# Altium schematic symbol library dungvh03-CERN_Logic.SchLib: 486 symbols (part 17 of 54)
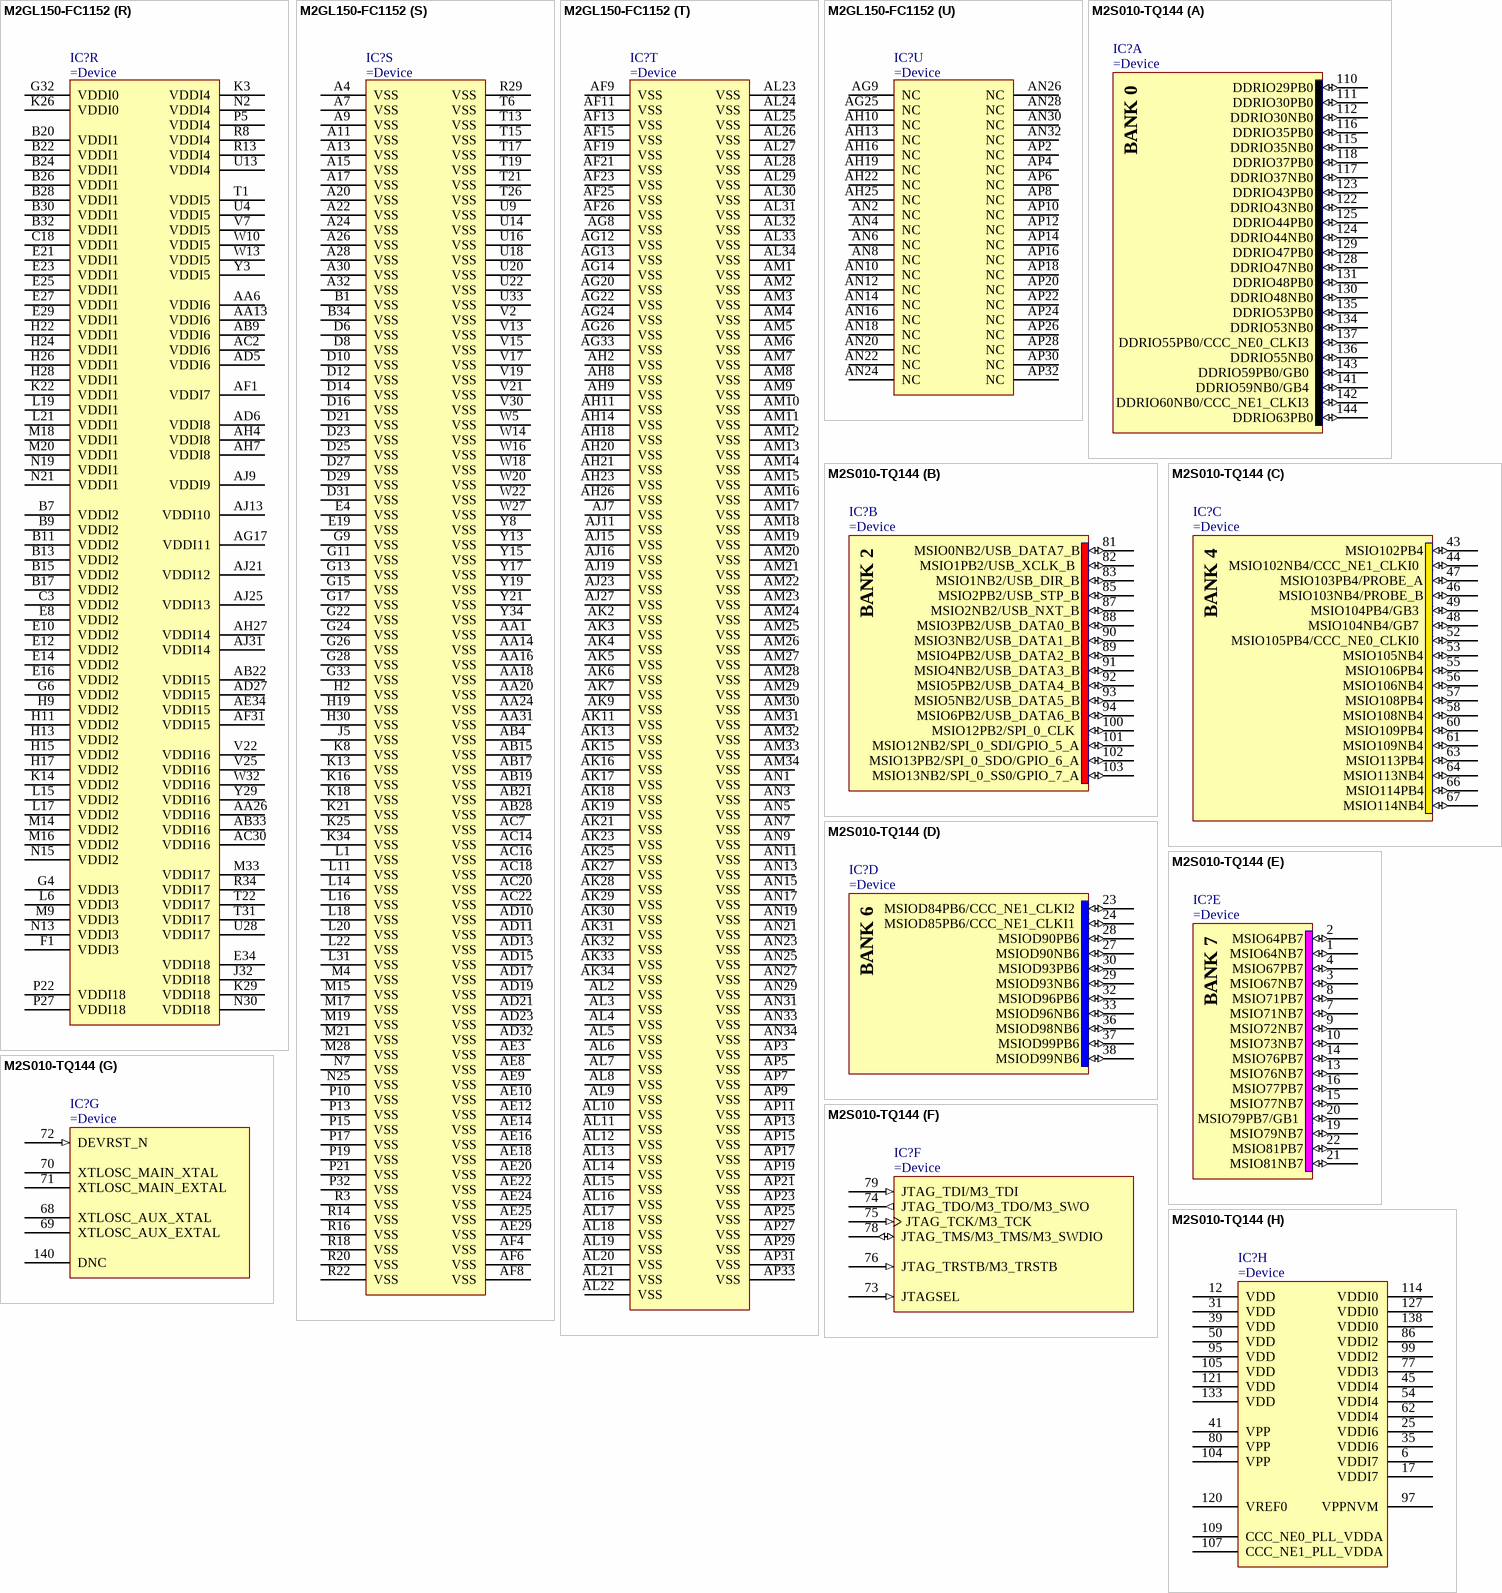
[diagram p277: symbols M2GL150-FC1152 to M2S010-TQ144]

## M2GL150-FC1152 (continued)
part S pins: A4 VSS (power) "Ground pad for core and I/Os. Must always connect to ground.", A7 VSS (power) "Ground pad for core and I/Os. Must always connect to ground.", A9 VSS (power) "Ground pad for core and I/Os. Must always connect to ground.", A11 VSS (power) "Ground pad for core and I/Os. Must always connect to ground.", A13 VSS (power) "Ground pad for core and I/Os. Must always connect to ground.", A15 VSS (power) "Ground pad for core and I/Os. Must always connect to ground.", A17 VSS (power) "Ground pad for core and I/Os. Must always connect to ground.", A20 VSS (power) "Ground pad for core and I/Os. Must always connect to ground.", A22 VSS (power) "Ground pad for core and I/Os. Must always connect to ground.", A24 VSS (power) "Ground pad for core and I/Os. Must always connect to ground.", A26 VSS (power) "Ground pad for core and I/Os. Must always connect to ground.", A28 VSS (power) "Ground pad for core and I/Os. Must always connect to ground.", A30 VSS (power) "Ground pad for core and I/Os. Must always connect to ground.", A32 VSS (power) "Ground pad for core and I/Os. Must always connect to ground.", AA1 VSS (power) "Ground pad for core and I/Os. Must always connect to ground.", AA14 VSS (power) "Ground pad for core and I/Os. Must always connect to ground.", AA16 VSS (power) "Ground pad for core and I/Os. Must always connect to ground.", AA18 VSS (power) "Ground pad for core and I/Os. Must always connect to ground.", AA20 VSS (power) "Ground pad for core and I/Os. Must always connect to ground.", AA24 VSS (power) "Ground pad for core and I/Os. Must always connect to ground.", AA31 VSS (power) "Ground pad for core and I/Os. Must always connect to ground.", AB4 VSS (power) "Ground pad for core and I/Os. Must always connect to ground.", AB15 VSS (power) "Ground pad for core and I/Os. Must always connect to ground.", AB17 VSS (power) "Ground pad for core and I/Os. Must always connect to ground.", AB19 VSS (power) "Ground pad for core and I/Os. Must always connect to ground.", AB21 VSS (power) "Ground pad for core and I/Os. Must always connect to ground.", AB28 VSS (power) "Ground pad for core and I/Os. Must always connect to ground.", AC7 VSS (power) "Ground pad for core and I/Os. Must always connect to ground.", AC14 VSS (power) "Ground pad for core and I/Os. Must always connect to ground.", AC16 VSS (power) "Ground pad for core and I/Os. Must always connect to ground.", AC18 VSS (power) "Ground pad for core and I/Os. Must always connect to ground.", AC20 VSS (power) "Ground pad for core and I/Os. Must always connect to ground.", AC22 VSS (power) "Ground pad for core and I/Os. Must always connect to ground.", AD10 VSS (power) "Ground pad for core and I/Os. Must always connect to ground.", AD11 VSS (power) "Ground pad for core and I/Os. Must always connect to ground.", AD13 VSS (power) "Ground pad for core and I/Os. Must always connect to ground.", AD15 VSS (power) "Ground pad for core and I/Os. Must always connect to ground.", AD17 VSS (power) "Ground pad for core and I/Os. Must always connect to ground.", AD19 VSS (power) "Ground pad for core and I/Os. Must always connect to ground.", AD21 VSS (power) "Ground pad for core and I/Os. Must always connect to ground.", AD23 VSS (power) "Ground pad for core and I/Os. Must always connect to ground.", AD32 VSS (power) "Ground pad for core and I/Os. Must always connect to ground.", AE3 VSS (power) "Ground pad for core and I/Os. Must always connect to ground.", AE8 VSS (power) "Ground pad for core and I/Os. Must always connect to ground.", AE9 VSS (power) "Ground pad for core and I/Os. Must always connect to ground.", AE10 VSS (power) "Ground pad for core and I/Os. Must always connect to ground.", AE12 VSS (power) "Ground pad for core and I/Os. Must always connect to ground.", AE14 VSS (power) "Ground pad for core and I/Os. Must always connect to ground.", AE16 VSS (power) "Ground pad for core and I/Os. Must always connect to ground.", AE18 VSS (power) "Ground pad for core and I/Os. Must always connect to ground.", AE20 VSS (power) "Ground pad for core and I/Os. Must always connect to ground.", AE22 VSS (power) "Ground pad for core and I/Os. Must always connect to ground.", AE24 VSS (power) "Ground pad for core and I/Os. Must always connect to ground.", AE25 VSS (power) "Ground pad for core and I/Os. Must always connect to ground.", AE29 VSS (power) "Ground pad for core and I/Os. Must always connect to ground.", AF4 VSS (power) "Ground pad for core and I/Os. Must always connect to ground.", AF6 VSS (power) "Ground pad for core and I/Os. Must always connect to ground.", AF8 VSS (power) "Ground pad for core and I/Os. Must always connect to ground.", B1 VSS (power) "Ground pad for core and I/Os. Must always connect to ground.", B34 VSS (power) "Ground pad for core and I/Os. Must always connect to ground.", D6 VSS (power) "Ground pad for core and I/Os. Must always connect to ground.", D8 VSS (power) "Ground pad for core and I/Os. Must always connect to ground.", D10 VSS (power) "Ground pad for core and I/Os. Must always connect to ground.", D12 VSS (power) "Ground pad for core and I/Os. Must always connect to ground.", D14 VSS (power) "Ground pad for core and I/Os. Must always connect to ground.", D16 VSS (power) "Ground pad for core and I/Os. Must always connect to ground.", D21 VSS (power) "Ground pad for core and I/Os. Must always connect to ground.", D23 VSS (power) "Ground pad for core and I/Os. Must always connect to ground.", D25 VSS (power) "Ground pad for core and I/Os. Must always connect to ground.", D27 VSS (power) "Ground pad for core and I/Os. Must always connect to ground.", D29 VSS (power) "Ground pad for core and I/Os. Must always connect to ground.", D31 VSS (power) "Ground pad for core and I/Os. Must always connect to ground.", E4 VSS (power) "Ground pad for core and I/Os. Must always connect to ground.", E19 VSS (power) "Ground pad for core and I/Os. Must always connect to ground.", G9 VSS (power) "Ground pad for core and I/Os. Must always connect to ground.", G11 VSS (power) "Ground pad for core and I/Os. Must always connect to ground.", G13 VSS (power) "Ground pad for core and I/Os. Must always connect to ground.", G15 VSS (power) "Ground pad for core and I/Os. Must always connect to ground.", G17 VSS (power) "Ground pad for core and I/Os. Must always connect to ground.", G22 VSS (power) "Ground pad for core and I/Os. Must always connect to ground.", G24 VSS (power) "Ground pad for core and I/Os. Must always connect to ground.", G26 VSS (power) "Ground pad for core and I/Os. Must always connect to ground.", G28 VSS (power) "Ground pad for core and I/Os. Must always connect to ground.", G33 VSS (power) "Ground pad for core and I/Os. Must always connect to ground.", H2 VSS (power) "Ground pad for core and I/Os. Must always connect to ground.", H19 VSS (power) "Ground pad for core and I/Os. Must always connect to ground.", H30 VSS (power) "Ground pad for core and I/Os. Must always connect to ground.", J5 VSS (power) "Ground pad for core and I/Os. Must always connect to ground.", K8 VSS (power) "Ground pad for core and I/Os. Must always connect to ground.", K13 VSS (power) "Ground pad for core and I/Os. Must always connect to ground.", K16 VSS (power) "Ground pad for core and I/Os. Must always connect to ground.", K18 VSS (power) "Ground pad for core and I/Os. Must always connect to ground.", K21 VSS (power) "Ground pad for core and I/Os. Must always connect to ground.", K25 VSS (power) "Ground pad for core and I/Os. Must always connect to ground.", K34 VSS (power) "Ground pad for core and I/Os. Must always connect to ground.", L1 VSS (power) "Ground pad for core and I/Os. Must always connect to ground.", L11 VSS (power) "Ground pad for core and I/Os. Must always connect to ground.", L14 VSS (power) "Ground pad for core and I/Os. Must always connect to ground.", L16 VSS (power) "Ground pad for core and I/Os. Must always connect to ground.", L18 VSS (power) "Ground pad for core and I/Os. Must always connect to ground.", L20 VSS (power) "Ground pad for core and I/Os. Must always connect to ground.", L22 VSS (power) "Ground pad for core and I/Os. Must always connect to ground.", L31 VSS (power) "Ground pad for core and I/Os. Must always connect to ground.", M4 VSS (power) "Ground pad for core and I/Os. Must always connect to ground.", M15 VSS (power) "Ground pad for core and I/Os. Must always connect to ground.", M17 VSS (power) "Ground pad for core and I/Os. Must always connect to ground.", M19 VSS (power) "Ground pad for core and I/Os. Must always connect to ground.", M21 VSS (power) "Ground pad for core and I/Os. Must always connect to ground.", M28 VSS (power) "Ground pad for core and I/Os. Must always connect to ground.", N7 VSS (power) "Ground pad for core and I/Os. Must always connect to ground.", N25 VSS (power) "Ground pad for core and I/Os. Must always connect to ground.", P10 VSS (power) "Ground pad for core and I/Os. Must always connect to ground.", P13 VSS (power) "Ground pad for core and I/Os. Must always connect to ground.", P15 VSS (power) "Ground pad for core and I/Os. Must always connect to ground.", P17 VSS (power) "Ground pad for core and I/Os. Must always connect to ground.", P19 VSS (power) "Ground pad for core and I/Os. Must always connect to ground.", P21 VSS (power) "Ground pad for core and I/Os. Must always connect to ground.", P32 VSS (power) "Ground pad for core and I/Os. Must always connect to ground.", R3 VSS (power) "Ground pad for core and I/Os. Must always connect to ground.", R14 VSS (power) "Ground pad for core and I/Os. Must always connect to ground.", R16 VSS (power) "Ground pad for core and I/Os. Must always connect to ground.", R18 VSS (power) "Ground pad for core and I/Os. Must always connect to ground.", R20 VSS (power) "Ground pad for core and I/Os. Must always connect to ground.", R22 VSS (power) "Ground pad for core and I/Os. Must always connect to ground.", R29 VSS (power) "Ground pad for core and I/Os. Must always connect to ground.", T6 VSS (power) "Ground pad for core and I/Os. Must always connect to ground.", T13 VSS (power) "Ground pad for core and I/Os. Must always connect to ground.", T15 VSS (power) "Ground pad for core and I/Os. Must always connect to ground.", T17 VSS (power) "Ground pad for core and I/Os. Must always connect to ground.", T19 VSS (power) "Ground pad for core and I/Os. Must always connect to ground.", T21 VSS (power) "Ground pad for core and I/Os. Must always connect to ground.", T26 VSS (power) "Ground pad for core and I/Os. Must always connect to ground.", U9 VSS (power) "Ground pad for core and I/Os. Must always connect to ground.", U14 VSS (power) "Ground pad for core and I/Os. Must always connect to ground.", U16 VSS (power) "Ground pad for core and I/Os. Must always connect to ground.", U18 VSS (power) "Ground pad for core and I/Os. Must always connect to ground.", U20 VSS (power) "Ground pad for core and I/Os. Must always connect to ground.", U22 VSS (power) "Ground pad for core and I/Os. Must always connect to ground.", U33 VSS (power) "Ground pad for core and I/Os. Must always connect to ground.", V2 VSS (power) "Ground pad for core and I/Os. Must always connect to ground.", V13 VSS (power) "Ground pad for core and I/Os. Must always connect to ground.", V15 VSS (power) "Ground pad for core and I/Os. Must always connect to ground.", V17 VSS (power) "Ground pad for core and I/Os. Must always connect to ground.", V19 VSS (power) "Ground pad for core and I/Os. Must always connect to ground.", V21 VSS (power) "Ground pad for core and I/Os. Must always connect to ground.", V30 VSS (power) "Ground pad for core and I/Os. Must always connect to ground.", W5 VSS (power) "Ground pad for core and I/Os. Must always connect to ground.", W14 VSS (power) "Ground pad for core and I/Os. Must always connect to ground.", W16 VSS (power) "Ground pad for core and I/Os. Must always connect to ground.", W18 VSS (power) "Ground pad for core and I/Os. Must always connect to ground.", W20 VSS (power) "Ground pad for core and I/Os. Must always connect to ground.", W22 VSS (power) "Ground pad for core and I/Os. Must always connect to ground.", W27 VSS (power) "Ground pad for core and I/Os. Must always connect to ground.", Y8 VSS (power) "Ground pad for core and I/Os. Must always connect to ground.", Y13 VSS (power) "Ground pad for core and I/Os. Must always connect to ground.", Y15 VSS (power) "Ground pad for core and I/Os. Must always connect to ground.", Y17 VSS (power) "Ground pad for core and I/Os. Must always connect to ground.", Y19 VSS (power) "Ground pad for core and I/Os. Must always connect to ground.", Y21 VSS (power) "Ground pad for core and I/Os. Must always connect to ground.", Y34 VSS (power) "Ground pad for core and I/Os. Must always connect to ground."
part T pins: AF9 VSS (power) "Ground pad for core and I/Os. Must always connect to ground.", AF11 VSS (power) "Ground pad for core and I/Os. Must always connect to ground.", AF13 VSS (power) "Ground pad for core and I/Os. Must always connect to ground.", AF15 VSS (power) "Ground pad for core and I/Os. Must always connect to ground.", AF19 VSS (power) "Ground pad for core and I/Os. Must always connect to ground.", AF21 VSS (power) "Ground pad for core and I/Os. Must always connect to ground.", AF23 VSS (power) "Ground pad for core and I/Os. Must always connect to ground.", AF25 VSS (power) "Ground pad for core and I/Os. Must always connect to ground.", AF26 VSS (power) "Ground pad for core and I/Os. Must always connect to ground.", AG8 VSS (power) "Ground pad for core and I/Os. Must always connect to ground.", AG12 VSS (power) "Ground pad for core and I/Os. Must always connect to ground.", AG13 VSS (power) "Ground pad for core and I/Os. Must always connect to ground.", AG14 VSS (power) "Ground pad for core and I/Os. Must always connect to ground.", AG20 VSS (power) "Ground pad for core and I/Os. Must always connect to ground.", AG22 VSS (power) "Ground pad for core and I/Os. Must always connect to ground.", AG24 VSS (power) "Ground pad for core and I/Os. Must always connect to ground.", AG26 VSS (power) "Ground pad for core and I/Os. Must always connect to ground.", AG33 VSS (power) "Ground pad for core and I/Os. Must always connect to ground.", AH2 VSS (power) "Ground pad for core and I/Os. Must always connect to ground.", AH8 VSS (power) "Ground pad for core and I/Os. Must always connect to ground.", AH9 VSS (power) "Ground pad for core and I/Os. Must always connect to ground.", AH11 VSS (power) "Ground pad for core and I/Os. Must always connect to ground.", AH14 VSS (power) "Ground pad for core and I/Os. Must always connect to ground.", AH18 VSS (power) "Ground pad for core and I/Os. Must always connect to ground.", AH20 VSS (power) "Ground pad for core and I/Os. Must always connect to ground.", AH21 VSS (power) "Ground pad for core and I/Os. Must always connect to ground.", AH23 VSS (power) "Ground pad for core and I/Os. Must always connect to ground.", AH26 VSS (power) "Ground pad for core and I/Os. Must always connect to ground.", AJ7 VSS (power) "Ground pad for core and I/Os. Must always connect to ground.", AJ11 VSS (power) "Ground pad for core and I/Os. Must always connect to ground.", AJ15 VSS (power) "Ground pad for core and I/Os. Must always connect to ground.", AJ16 VSS (power) "Ground pad for core and I/Os. Must always connect to ground.", AJ19 VSS (power) "Ground pad for core and I/Os. Must always connect to ground.", AJ23 VSS (power) "Ground pad for core and I/Os. Must always connect to ground.", AJ27 VSS (power) "Ground pad for core and I/Os. Must always connect to ground.", AK2 VSS (power) "Ground pad for core and I/Os. Must always connect to ground.", AK3 VSS (power) "Ground pad for core and I/Os. Must always connect to ground.", AK4 VSS (power) "Ground pad for core and I/Os. Must always connect to ground.", AK5 VSS (power) "Ground pad for core and I/Os. Must always connect to ground.", AK6 VSS (power) "Ground pad for core and I/Os. Must always connect to ground.", AK7 VSS (power) "Ground pad for core and I/Os. Must always connect to ground.", AK9 VSS (power) "Ground pad for core and I/Os. Must always connect to ground.", AK11 VSS (power) "Ground pad for core and I/Os. Must always connect to ground.", AK13 VSS (power) "Ground pad for core and I/Os. Must always connect to ground.", AK15 VSS (power) "Ground pad for core and I/Os. Must always connect to ground.", AK16 VSS (power) "Ground pad for core and I/Os. Must always connect to ground.", AK17 VSS (power) "Ground pad for core and I/Os. Must always connect to ground.", AK18 VSS (power) "Ground pad for core and I/Os. Must always connect to ground.", AK19 VSS (power) "Ground pad for core and I/Os. Must always connect to ground.", AK21 VSS (power) "Ground pad for core and I/Os. Must always connect to ground.", AK23 VSS (power) "Ground pad for core and I/Os. Must always connect to ground.", AK25 VSS (power) "Ground pad for core and I/Os. Must always connect to ground.", AK27 VSS (power) "Ground pad for core and I/Os. Must always connect to ground.", AK28 VSS (power) "Ground pad for core and I/Os. Must always connect to ground.", AK29 VSS (power) "Ground pad for core and I/Os. Must always connect to ground.", AK30 VSS (power) "Ground pad for core and I/Os. Must always connect to ground.", AK31 VSS (power) "Ground pad for core and I/Os. Must always connect to ground.", AK32 VSS (power) "Ground pad for core and I/Os. Must always connect to ground.", AK33 VSS (power) "Ground pad for core and I/Os. Must always connect to ground.", AK34 VSS (power) "Ground pad for core and I/Os. Must always connect to ground.", AL2 VSS (power) "Ground pad for core and I/Os. Must always connect to ground.", AL3 VSS (power) "Ground pad for core and I/Os. Must always connect to ground.", AL4 VSS (power) "Ground pad for core and I/Os. Must always connect to ground.", AL5 VSS (power) "Ground pad for core and I/Os. Must always connect to ground.", AL6 VSS (power) "Ground pad for core and I/Os. Must always connect to ground.", AL7 VSS (power) "Ground pad for core and I/Os. Must always connect to ground.", AL8 VSS (power) "Ground pad for core and I/Os. Must always connect to ground.", AL9 VSS (power) "Ground pad for core and I/Os. Must always connect to ground.", AL10 VSS (power) "Ground pad for core and I/Os. Must always connect to ground.", AL11 VSS (power) "Ground pad for core and I/Os. Must always connect to ground.", AL12 VSS (power) "Ground pad for core and I/Os. Must always connect to ground.", AL13 VSS (power) "Ground pad for core and I/Os. Must always connect to ground.", AL14 VSS (power) "Ground pad for core and I/Os. Must always connect to ground.", AL15 VSS (power) "Ground pad for core and I/Os. Must always connect to ground.", AL16 VSS (power) "Ground pad for core and I/Os. Must always connect to ground.", AL17 VSS (power) "Ground pad for core and I/Os. Must always connect to ground.", AL18 VSS (power) "Ground pad for core and I/Os. Must always connect to ground.", AL19 VSS (power) "Ground pad for core and I/Os. Must always connect to ground.", AL20 VSS (power) "Ground pad for core and I/Os. Must always connect to ground.", AL21 VSS (power) "Ground pad for core and I/Os. Must always connect to ground.", AL22 VSS (power) "Ground pad for core and I/Os. Must always connect to ground.", AL23 VSS (power) "Ground pad for core and I/Os. Must always connect to ground.", AL24 VSS (power) "Ground pad for core and I/Os. Must always connect to ground.", AL25 VSS (power) "Ground pad for core and I/Os. Must always connect to ground.", AL26 VSS (power) "Ground pad for core and I/Os. Must always connect to ground.", AL27 VSS (power) "Ground pad for core and I/Os. Must always connect to ground.", AL28 VSS (power) "Ground pad for core and I/Os. Must always connect to ground.", AL29 VSS (power) "Ground pad for core and I/Os. Must always connect to ground.", AL30 VSS (power) "Ground pad for core and I/Os. Must always connect to ground.", AL31 VSS (power) "Ground pad for core and I/Os. Must always connect to ground.", AL32 VSS (power) "Ground pad for core and I/Os. Must always connect to ground.", AL33 VSS (power) "Ground pad for core and I/Os. Must always connect to ground.", AL34 VSS (power) "Ground pad for core and I/Os. Must always connect to ground.", AM1 VSS (power) "Ground pad for core and I/Os. Must always connect to ground.", AM2 VSS (power) "Ground pad for core and I/Os. Must always connect to ground.", AM3 VSS (power) "Ground pad for core and I/Os. Must always connect to ground.", AM4 VSS (power) "Ground pad for core and I/Os. Must always connect to ground.", AM5 VSS (power) "Ground pad for core and I/Os. Must always connect to ground.", AM6 VSS (power) "Ground pad for core and I/Os. Must always connect to ground.", AM7 VSS (power) "Ground pad for core and I/Os. Must always connect to ground.", AM8 VSS (power) "Ground pad for core and I/Os. Must always connect to ground.", AM9 VSS (power) "Ground pad for core and I/Os. Must always connect to ground.", AM10 VSS (power) "Ground pad for core and I/Os. Must always connect to ground.", AM11 VSS (power) "Ground pad for core and I/Os. Must always connect to ground.", AM12 VSS (power) "Ground pad for core and I/Os. Must always connect to ground.", AM13 VSS (power) "Ground pad for core and I/Os. Must always connect to ground.", AM14 VSS (power) "Ground pad for core and I/Os. Must always connect to ground.", AM15 VSS (power) "Ground pad for core and I/Os. Must always connect to ground.", AM16 VSS (power) "Ground pad for core and I/Os. Must always connect to ground.", AM17 VSS (power) "Ground pad for core and I/Os. Must always connect to ground.", AM18 VSS (power) "Ground pad for core and I/Os. Must always connect to ground.", AM19 VSS (power) "Ground pad for core and I/Os. Must always connect to ground.", AM20 VSS (power) "Ground pad for core and I/Os. Must always connect to ground.", AM21 VSS (power) "Ground pad for core and I/Os. Must always connect to ground.", AM22 VSS (power) "Ground pad for core and I/Os. Must always connect to ground.", AM23 VSS (power) "Ground pad for core and I/Os. Must always connect to ground.", AM24 VSS (power) "Ground pad for core and I/Os. Must always connect to ground.", AM25 VSS (power) "Ground pad for core and I/Os. Must always connect to ground.", AM26 VSS (power) "Ground pad for core and I/Os. Must always connect to ground.", AM27 VSS (power) "Ground pad for core and I/Os. Must always connect to ground.", AM28 VSS (power) "Ground pad for core and I/Os. Must always connect to ground.", AM29 VSS (power) "Ground pad for core and I/Os. Must always connect to ground.", AM30 VSS (power) "Ground pad for core and I/Os. Must always connect to ground.", AM31 VSS (power) "Ground pad for core and I/Os. Must always connect to ground.", AM32 VSS (power) "Ground pad for core and I/Os. Must always connect to ground.", AM33 VSS (power) "Ground pad for core and I/Os. Must always connect to ground.", AM34 VSS (power) "Ground pad for core and I/Os. Must always connect to ground.", AN1 VSS (power) "Ground pad for core and I/Os. Must always connect to ground.", AN3 VSS (power) "Ground pad for core and I/Os. Must always connect to ground.", AN5 VSS (power) "Ground pad for core and I/Os. Must always connect to ground.", AN7 VSS (power) "Ground pad for core and I/Os. Must always connect to ground.", AN9 VSS (power) "Ground pad for core and I/Os. Must always connect to ground.", AN11 VSS (power) "Ground pad for core and I/Os. Must always connect to ground.", AN13 VSS (power) "Ground pad for core and I/Os. Must always connect to ground.", AN15 VSS (power) "Ground pad for core and I/Os. Must always connect to ground.", AN17 VSS (power) "Ground pad for core and I/Os. Must always connect to ground.", AN19 VSS (power) "Ground pad for core and I/Os. Must always connect to ground.", AN21 VSS (power) "Ground pad for core and I/Os. Must always connect to ground.", AN23 VSS (power) "Ground pad for core and I/Os. Must always connect to ground.", AN25 VSS (power) "Ground pad for core and I/Os. Must always connect to ground.", AN27 VSS (power) "Ground pad for core and I/Os. Must always connect to ground.", AN29 VSS (power) "Ground pad for core and I/Os. Must always connect to ground.", AN31 VSS (power) "Ground pad for core and I/Os. Must always connect to ground.", AN33 VSS (power) "Ground pad for core and I/Os. Must always connect to ground.", AN34 VSS (power) "Ground pad for core and I/Os. Must always connect to ground.", AP3 VSS (power) "Ground pad for core and I/Os. Must always connect to ground.", AP5 VSS (power) "Ground pad for core and I/Os. Must always connect to ground.", AP7 VSS (power) "Ground pad for core and I/Os. Must always connect to ground.", AP9 VSS (power) "Ground pad for core and I/Os. Must always connect to ground.", AP11 VSS (power) "Ground pad for core and I/Os. Must always connect to ground.", AP13 VSS (power) "Ground pad for core and I/Os. Must always connect to ground.", AP15 VSS (power) "Ground pad for core and I/Os. Must always connect to ground.", AP17 VSS (power) "Ground pad for core and I/Os. Must always connect to ground.", AP19 VSS (power) "Ground pad for core and I/Os. Must always connect to ground.", AP21 VSS (power) "Ground pad for core and I/Os. Must always connect to ground.", AP23 VSS (power) "Ground pad for core and I/Os. Must always connect to ground.", AP25 VSS (power) "Ground pad for core and I/Os. Must always connect to ground.", AP27 VSS (power) "Ground pad for core and I/Os. Must always connect to ground.", AP29 VSS (power) "Ground pad for core and I/Os. Must always connect to ground.", AP31 VSS (power) "Ground pad for core and I/Os. Must always connect to ground.", AP33 VSS (power) "Ground pad for core and I/Os. Must always connect to ground."
part U pins: AG9 NC "Do not connect. This pin should not be connected to any signals on the PCB; leave this pin unconnected.", AG25 NC "Do not connect. This pin should not be connected to any signals on the PCB; leave this pin unconnected.", AH10 NC "Do not connect. This pin should not be connected to any signals on the PCB; leave this pin unconnected.", AH13 NC "Do not connect. This pin should not be connected to any signals on the PCB; leave this pin unconnected.", AH16 NC "Do not connect. This pin should not be connected to any signals on the PCB; leave this pin unconnected.", AH19 NC "Do not connect. This pin should not be connected to any signals on the PCB; leave this pin unconnected.", AH22 NC "Do not connect. This pin should not be connected to any signals on the PCB; leave this pin unconnected.", AH25 NC "Do not connect. This pin should not be connected to any signals on the PCB; leave this pin unconnected.", AN2 NC "Do not connect. This pin should not be connected to any signals on the PCB; leave this pin unconnected.", AN4 NC "Do not connect. This pin should not be connected to any signals on the PCB; leave this pin unconnected.", AN6 NC "Do not connect. This pin should not be connected to any signals on the PCB; leave this pin unconnected.", AN8 NC "Do not connect. This pin should not be connected to any signals on the PCB; leave this pin unconnected.", AN10 NC "Do not connect. This pin should not be connected to any signals on the PCB; leave this pin unconnected.", AN12 NC "Do not connect. This pin should not be connected to any signals on the PCB; leave this pin unconnected.", AN14 NC "Do not connect. This pin should not be connected to any signals on the PCB; leave this pin unconnected.", AN16 NC "Do not connect. This pin should not be connected to any signals on the PCB; leave this pin unconnected.", AN18 NC "Do not connect. This pin should not be connected to any signals on the PCB; leave this pin unconnected.", AN20 NC "Do not connect. This pin should not be connected to any signals on the PCB; leave this pin unconnected.", AN22 NC "Do not connect. This pin should not be connected to any signals on the PCB; leave this pin unconnected.", AN24 NC "Do not connect. This pin should not be connected to any signals on the PCB; leave this pin unconnected.", AN26 NC "Do not connect. This pin should not be connected to any signals on the PCB; leave this pin unconnected.", AN28 NC "Do not connect. This pin should not be connected to any signals on the PCB; leave this pin unconnected.", AN30 NC "Do not connect. This pin should not be connected to any signals on the PCB; leave this pin unconnected.", AN32 NC "Do not connect. This pin should not be connected to any signals on the PCB; leave this pin unconnected.", AP2 NC "Do not connect. This pin should not be connected to any signals on the PCB; leave this pin unconnected.", AP4 NC "Do not connect. This pin should not be connected to any signals on the PCB; leave this pin unconnected.", AP6 NC "Do not connect. This pin should not be connected to any signals on the PCB; leave this pin unconnected.", AP8 NC "Do not connect. This pin should not be connected to any signals on the PCB; leave this pin unconnected.", AP10 NC "Do not connect. This pin should not be connected to any signals on the PCB; leave this pin unconnected.", AP12 NC "Do not connect. This pin should not be connected to any signals on the PCB; leave this pin unconnected.", AP14 NC "Do not connect. This pin should not be connected to any signals on the PCB; leave this pin unconnected.", AP16 NC "Do not connect. This pin should not be connected to any signals on the PCB; leave this pin unconnected.", AP18 NC "Do not connect. This pin should not be connected to any signals on the PCB; leave this pin unconnected.", AP20 NC "Do not connect. This pin should not be connected to any signals on the PCB; leave this pin unconnected.", AP22 NC "Do not connect. This pin should not be connected to any signals on the PCB; leave this pin unconnected.", AP24 NC "Do not connect. This pin should not be connected to any signals on the PCB; leave this pin unconnected.", AP26 NC "Do not connect. This pin should not be connected to any signals on the PCB; leave this pin unconnected.", AP28 NC "Do not connect. This pin should not be connected to any signals on the PCB; leave this pin unconnected.", AP30 NC "Do not connect. This pin should not be connected to any signals on the PCB; leave this pin unconnected.", AP32 NC "Do not connect. This pin should not be connected to any signals on the PCB; leave this pin unconnected."
part A text: BANK 0
part B text: BANK 1
part C text: BANK 2
part D text: BANK 3
part E text: BANK 4
part F text: BANK 5
part G text: BANK 6
part H text: BANK 8
part I text: BANK 9; BANK 10; BANK 11; BANK 12; BANK 13; BANK 14
part J text: BANK 15
part K text: BANK 16
part L text: BANK 17
part M text: BANK 18

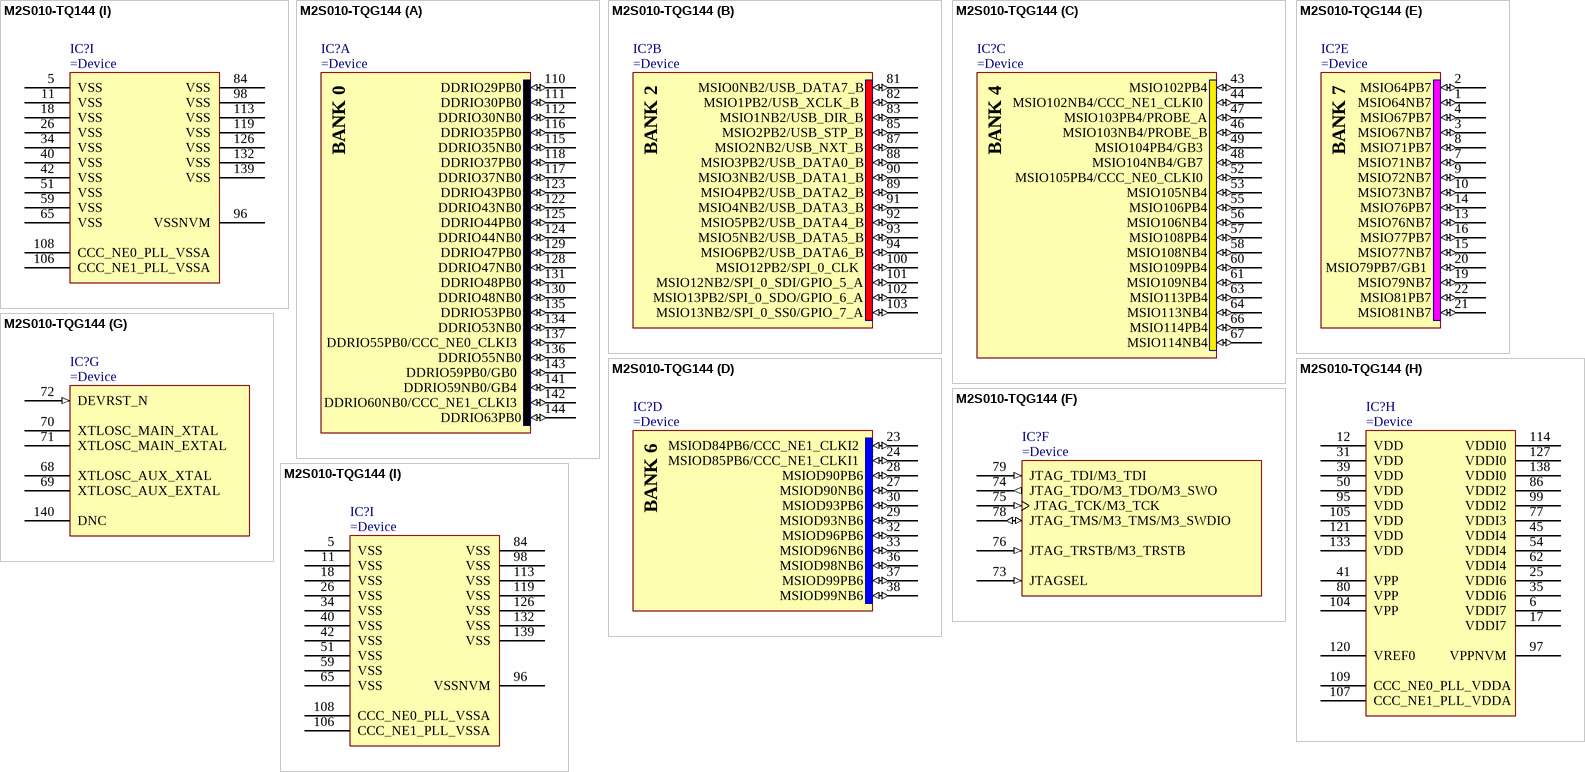
[diagram p88: symbols M2S010-TQ144 to M2S010-TQG144]

## M2S010-TQ144
designator IC?
SmartFusion 2 SoC FPGA, ARM Cortex-M3, 12 K LUTs, 233 Users I/O, Design Security, 0 to 85 degC, RoHS
part A pins: 110 DDRIO29PB0 (io), 111 DDRIO30PB0 (io), 112 DDRIO30NB0 (io), 115 DDRIO35NB0 (io), 116 DDRIO35PB0 (io), 117 DDRIO37NB0 (io), 118 DDRIO37PB0 (io), 122 DDRIO43NB0 (io), 123 DDRIO43PB0 (io), 124 DDRIO44NB0 (io), 125 DDRIO44PB0 (io), 128 DDRIO47NB0 (io), 129 DDRIO47PB0 (io), 130 DDRIO48NB0 (io), 131 DDRIO48PB0 (io), 134 DDRIO53NB0 (io), 135 DDRIO53PB0 (io), 136 DDRIO55NB0 (io), 137 DDRIO55PB0/CCC_NE0_CLKI3 (io), 141 DDRIO59NB0/GB4 (io), 142 DDRIO60NB0/CCC_NE1_CLKI3 (io), 143 DDRIO59PB0/GB0 (io), 144 DDRIO63PB0 (io)
part B pins: 81 MSIO0NB2/USB_DATA7_B (io), 82 MSIO1PB2/USB_XCLK_B (io), 83 MSIO1NB2/USB_DIR_B (io), 85 MSIO2PB2/USB_STP_B (io), 87 MSIO2NB2/USB_NXT_B (io), 88 MSIO3PB2/USB_DATA0_B (io), 89 MSIO4PB2/USB_DATA2_B (io), 90 MSIO3NB2/USB_DATA1_B (io), 91 MSIO4NB2/USB_DATA3_B (io), 92 MSIO5PB2/USB_DATA4_B (io), 93 MSIO5NB2/USB_DATA5_B (io), 94 MSIO6PB2/USB_DATA6_B (io), 100 MSIO12PB2/SPI_0_CLK (io), 101 MSIO12NB2/SPI_0_SDI/GPIO_5_A (io), 102 MSIO13PB2/SPI_0_SDO/GPIO_6_A (io), 103 MSIO13NB2/SPI_0_SS0/GPIO_7_A (io)
part C pins: 43 MSIO102PB4 (io), 44 MSIO102NB4/CCC_NE1_CLKI0 (io), 46 MSIO103NB4/PROBE_B (io), 47 MSIO103PB4/PROBE_A (io), 48 MSIO104NB4/GB7 (io), 49 MSIO104PB4/GB3 (io), 52 MSIO105PB4/CCC_NE0_CLKI0 (io), 53 MSIO105NB4 (io), 55 MSIO106PB4 (io), 56 MSIO106NB4 (io), 57 MSIO108PB4 (io), 58 MSIO108NB4 (io), 60 MSIO109PB4 (io), 61 MSIO109NB4 (io), 63 MSIO113PB4 (io), 64 MSIO113NB4 (io), 66 MSIO114PB4 (io), 67 MSIO114NB4 (io)
part D pins: 23 MSIOD84PB6/CCC_NE1_CLKI2 (io), 24 MSIOD85PB6/CCC_NE1_CLKI1 (io), 27 MSIOD90NB6 (io), 28 MSIOD90PB6 (io), 29 MSIOD93NB6 (io), 30 MSIOD93PB6 (io), 32 MSIOD96PB6 (io), 33 MSIOD96NB6 (io), 36 MSIOD98NB6 (io), 37 MSIOD99PB6 (io), 38 MSIOD99NB6 (io)
part E pins: 1 MSIO64NB7 (io), 2 MSIO64PB7 (io), 3 MSIO67NB7 (io), 4 MSIO67PB7 (io), 7 MSIO71NB7 (io), 8 MSIO71PB7 (io), 9 MSIO72NB7 (io), 10 MSIO73NB7 (io), 13 MSIO76NB7 (io), 14 MSIO76PB7 (io), 15 MSIO77NB7 (io), 16 MSIO77PB7 (io), 19 MSIO79NB7 (io), 20 MSIO79PB7/GB1 (io), 21 MSIO81NB7 (io), 22 MSIO81PB7 (io)
part F pins: 73 JTAGSEL (in), 74 JTAG_TDO/M3_TDO/M3_SWO (out), 75 JTAG_TCK/M3_TCK (in), 76 JTAG_TRSTB/M3_TRSTB (in), 78 JTAG_TMS/M3_TMS/M3_SWDIO (io), 79 JTAG_TDI/M3_TDI (in)
part G pins: 68 XTLOSC_AUX_XTAL, 69 XTLOSC_AUX_EXTAL, 70 XTLOSC_MAIN_XTAL, 71 XTLOSC_MAIN_EXTAL, 72 DEVRST_N (in), 140 DNC
part H pins: 6 VDDI7 (power) "VDDI7, Bank 7 power", 12 VDD (power) "DC core supply voltage. Must always power this pin.", 17 VDDI7 (power) "VDDI7, Bank 7 power", 25 VDDI6 (power) "VDDI6, Bank 6 power", 31 VDD (power) "DC core supply voltage. Must always power this pin.", 35 VDDI6 (power) "VDDI6, Bank 6 power", 39 VDD (power) "DC core supply voltage. Must always power this pin.", 41 VPP (power) "Power supply for charge pumps (for normal operation and programming). Must always power this pin.", 45 VDDI4 (power) "VDDI4, Bank 4 power", 50 VDD (power) "DC core supply voltage. Must always power this pin.", 54 VDDI4 (power) "VDDI4, Bank 4 power", 62 VDDI4 (power) "VDDI4, Bank 4 power", 77 VDDI3 (power) "VDDI3, Bank 3 power", 80 VPP (power) "Power supply for charge pumps (for normal operation and programming). Must always power this pin.", 86 VDDI2 (power) "VDDI2, Bank 2 power", 95 VDD (power) "DC core supply voltage. Must always power this pin.", 97 VPPNVM (power) "Analog sense circuit supply of embedded nonvolatile memory (eNVM). Must be shorted to VPP.", 99 VDDI2 (power) "VDDI2, Bank 2 power", 104 VPP (power) "Power supply for charge pumps (for normal operation and programming). Must always power this pin.", 105 VDD (power) "DC core supply voltage. Must always power this pin.", 107 CCC_NE1_PLL_VDDA (power) "Analog power pad for PLL1", 109 CCC_NE0_PLL_VDDA (power) "Analog power pad for PLL0", 114 VDDI0 (power) "VDDI0, Bank 0 power", 120 VREF0 (power) "Reference voltage for MDDR/FDDR signals which is powered through the corresponding Bank Supply (VDDI0). When unused, VREF0 can be DNC or grounded (VSS).", 121 VDD (power) "DC core supply voltage. Must always power this pin.", 127 VDDI0 (power) "VDDI0, Bank 0 power", 133 VDD (power) "DC core supply voltage. Must always power this pin.", 138 VDDI0 (power) "VDDI0, Bank 0 power"
part I pins: 5 VSS (power) "Ground pad for core and I/Os. Must always connect to ground.", 11 VSS (power) "Ground pad for core and I/Os. Must always connect to ground.", 18 VSS (power) "Ground pad for core and I/Os. Must always connect to ground.", 26 VSS (power) "Ground pad for core and I/Os. Must always connect to ground.", 34 VSS (power) "Ground pad for core and I/Os. Must always connect to ground.", 40 VSS (power) "Ground pad for core and I/Os. Must always connect to ground.", 42 VSS (power) "Ground pad for core and I/Os. Must always connect to ground.", 51 VSS (power) "Ground pad for core and I/Os. Must always connect to ground.", 59 VSS (power) "Ground pad for core and I/Os. Must always connect to ground.", 65 VSS (power) "Ground pad for core and I/Os. Must always connect to ground.", 84 VSS (power) "Ground pad for core and I/Os. Must always connect to ground.", 96 VSSNVM (power) "Analog sense circuit ground of eNVM. Must always connect to ground.", 98 VSS (power) "Ground pad for core and I/Os. Must always connect to ground.", 106 CCC_NE1_PLL_VSSA (power) "Return path for corresponding analog PLL VDDA supply. High frequency noise should be eliminated by placing the R-C filter circuitry in between VDDA and VSSA pins.", 108 CCC_NE0_PLL_VSSA (power) "Return path for corresponding analog PLL VDDA supply. High frequency noise should be eliminated by placing the R-C filter circuitry in between VDDA and VSSA pins.", 113 VSS (power) "Ground pad for core and I/Os. Must always connect to ground.", 119 VSS (power) "Ground pad for core and I/Os. Must always connect to ground.", 126 VSS (power) "Ground pad for core and I/Os. Must always connect to ground.", 132 VSS (power) "Ground pad for core and I/Os. Must always connect to ground.", 139 VSS (power) "Ground pad for core and I/Os. Must always connect to ground."
part A text: BANK 0
part B text: BANK 2
part C text: BANK 4
part D text: BANK 6
part E text: BANK 7

## M2S010-TQG144
designator IC?
SmartFusion 2 SoC FPGA, ARM Cortex-M3, 12 K LUTs, 233 Users I/O, Design Security, 0 to 85 degC, RoHS
part A pins: 110 DDRIO29PB0 (io), 111 DDRIO30PB0 (io), 112 DDRIO30NB0 (io), 115 DDRIO35NB0 (io), 116 DDRIO35PB0 (io), 117 DDRIO37NB0 (io), 118 DDRIO37PB0 (io), 122 DDRIO43NB0 (io), 123 DDRIO43PB0 (io), 124 DDRIO44NB0 (io), 125 DDRIO44PB0 (io), 128 DDRIO47NB0 (io), 129 DDRIO47PB0 (io), 130 DDRIO48NB0 (io), 131 DDRIO48PB0 (io), 134 DDRIO53NB0 (io), 135 DDRIO53PB0 (io), 136 DDRIO55NB0 (io), 137 DDRIO55PB0/CCC_NE0_CLKI3 (io), 141 DDRIO59NB0/GB4 (io), 142 DDRIO60NB0/CCC_NE1_CLKI3 (io), 143 DDRIO59PB0/GB0 (io), 144 DDRIO63PB0 (io)
part B pins: 81 MSIO0NB2/USB_DATA7_B (io), 82 MSIO1PB2/USB_XCLK_B (io), 83 MSIO1NB2/USB_DIR_B (io), 85 MSIO2PB2/USB_STP_B (io), 87 MSIO2NB2/USB_NXT_B (io), 88 MSIO3PB2/USB_DATA0_B (io), 89 MSIO4PB2/USB_DATA2_B (io), 90 MSIO3NB2/USB_DATA1_B (io), 91 MSIO4NB2/USB_DATA3_B (io), 92 MSIO5PB2/USB_DATA4_B (io), 93 MSIO5NB2/USB_DATA5_B (io), 94 MSIO6PB2/USB_DATA6_B (io), 100 MSIO12PB2/SPI_0_CLK (io), 101 MSIO12NB2/SPI_0_SDI/GPIO_5_A (io), 102 MSIO13PB2/SPI_0_SDO/GPIO_6_A (io), 103 MSIO13NB2/SPI_0_SS0/GPIO_7_A (io)
part C pins: 43 MSIO102PB4 (io), 44 MSIO102NB4/CCC_NE1_CLKI0 (io), 46 MSIO103NB4/PROBE_B (io), 47 MSIO103PB4/PROBE_A (io), 48 MSIO104NB4/GB7 (io), 49 MSIO104PB4/GB3 (io), 52 MSIO105PB4/CCC_NE0_CLKI0 (io), 53 MSIO105NB4 (io), 55 MSIO106PB4 (io), 56 MSIO106NB4 (io), 57 MSIO108PB4 (io), 58 MSIO108NB4 (io), 60 MSIO109PB4 (io), 61 MSIO109NB4 (io), 63 MSIO113PB4 (io), 64 MSIO113NB4 (io), 66 MSIO114PB4 (io), 67 MSIO114NB4 (io)
part D pins: 23 MSIOD84PB6/CCC_NE1_CLKI2 (io), 24 MSIOD85PB6/CCC_NE1_CLKI1 (io), 27 MSIOD90NB6 (io), 28 MSIOD90PB6 (io), 29 MSIOD93NB6 (io), 30 MSIOD93PB6 (io), 32 MSIOD96PB6 (io), 33 MSIOD96NB6 (io), 36 MSIOD98NB6 (io), 37 MSIOD99PB6 (io), 38 MSIOD99NB6 (io)
part E pins: 1 MSIO64NB7 (io), 2 MSIO64PB7 (io), 3 MSIO67NB7 (io), 4 MSIO67PB7 (io), 7 MSIO71NB7 (io), 8 MSIO71PB7 (io), 9 MSIO72NB7 (io), 10 MSIO73NB7 (io), 13 MSIO76NB7 (io), 14 MSIO76PB7 (io), 15 MSIO77NB7 (io), 16 MSIO77PB7 (io), 19 MSIO79NB7 (io), 20 MSIO79PB7/GB1 (io), 21 MSIO81NB7 (io), 22 MSIO81PB7 (io)
part F pins: 73 JTAGSEL (in), 74 JTAG_TDO/M3_TDO/M3_SWO (out), 75 JTAG_TCK/M3_TCK (in), 76 JTAG_TRSTB/M3_TRSTB (in), 78 JTAG_TMS/M3_TMS/M3_SWDIO (io), 79 JTAG_TDI/M3_TDI (in)
part G pins: 68 XTLOSC_AUX_XTAL, 69 XTLOSC_AUX_EXTAL, 70 XTLOSC_MAIN_XTAL, 71 XTLOSC_MAIN_EXTAL, 72 DEVRST_N (in), 140 DNC
part H pins: 6 VDDI7 (power) "VDDI7, Bank 7 power", 12 VDD (power) "DC core supply voltage. Must always power this pin.", 17 VDDI7 (power) "VDDI7, Bank 7 power", 25 VDDI6 (power) "VDDI6, Bank 6 power", 31 VDD (power) "DC core supply voltage. Must always power this pin.", 35 VDDI6 (power) "VDDI6, Bank 6 power", 39 VDD (power) "DC core supply voltage. Must always power this pin.", 41 VPP (power) "Power supply for charge pumps (for normal operation and programming). Must always power this pin.", 45 VDDI4 (power) "VDDI4, Bank 4 power", 50 VDD (power) "DC core supply voltage. Must always power this pin.", 54 VDDI4 (power) "VDDI4, Bank 4 power", 62 VDDI4 (power) "VDDI4, Bank 4 power", 77 VDDI3 (power) "VDDI3, Bank 3 power", 80 VPP (power) "Power supply for charge pumps (for normal operation and programming). Must always power this pin.", 86 VDDI2 (power) "VDDI2, Bank 2 power", 95 VDD (power) "DC core supply voltage. Must always power this pin.", 97 VPPNVM (power) "Analog sense circuit supply of embedded nonvolatile memory (eNVM). Must be shorted to VPP.", 99 VDDI2 (power) "VDDI2, Bank 2 power", 104 VPP (power) "Power supply for charge pumps (for normal operation and programming). Must always power this pin.", 105 VDD (power) "DC core supply voltage. Must always power this pin.", 107 CCC_NE1_PLL_VDDA (power) "Analog power pad for PLL1", 109 CCC_NE0_PLL_VDDA (power) "Analog power pad for PLL0", 114 VDDI0 (power) "VDDI0, Bank 0 power", 120 VREF0 (power) "Reference voltage for MDDR/FDDR signals which is powered through the corresponding Bank Supply (VDDI0). When unused, VREF0 can be DNC or grounded (VSS).", 121 VDD (power) "DC core supply voltage. Must always power this pin.", 127 VDDI0 (power) "VDDI0, Bank 0 power", 133 VDD (power) "DC core supply voltage. Must always power this pin.", 138 VDDI0 (power) "VDDI0, Bank 0 power"
part I pins: 5 VSS (power) "Ground pad for core and I/Os. Must always connect to ground.", 11 VSS (power) "Ground pad for core and I/Os. Must always connect to ground.", 18 VSS (power) "Ground pad for core and I/Os. Must always connect to ground.", 26 VSS (power) "Ground pad for core and I/Os. Must always connect to ground.", 34 VSS (power) "Ground pad for core and I/Os. Must always connect to ground.", 40 VSS (power) "Ground pad for core and I/Os. Must always connect to ground.", 42 VSS (power) "Ground pad for core and I/Os. Must always connect to ground.", 51 VSS (power) "Ground pad for core and I/Os. Must always connect to ground.", 59 VSS (power) "Ground pad for core and I/Os. Must always connect to ground.", 65 VSS (power) "Ground pad for core and I/Os. Must always connect to ground.", 84 VSS (power) "Ground pad for core and I/Os. Must always connect to ground.", 96 VSSNVM (power) "Analog sense circuit ground of eNVM. Must always connect to ground.", 98 VSS (power) "Ground pad for core and I/Os. Must always connect to ground.", 106 CCC_NE1_PLL_VSSA (power) "Return path for corresponding analog PLL VDDA supply. High frequency noise should be eliminated by placing the R-C filter circuitry in between VDDA and VSSA pins.", 108 CCC_NE0_PLL_VSSA (power) "Return path for corresponding analog PLL VDDA supply. High frequency noise should be eliminated by placing the R-C filter circuitry in between VDDA and VSSA pins.", 113 VSS (power) "Ground pad for core and I/Os. Must always connect to ground.", 119 VSS (power) "Ground pad for core and I/Os. Must always connect to ground.", 126 VSS (power) "Ground pad for core and I/Os. Must always connect to ground.", 132 VSS (power) "Ground pad for core and I/Os. Must always connect to ground.", 139 VSS (power) "Ground pad for core and I/Os. Must always connect to ground."
part A text: BANK 0
part B text: BANK 2
part C text: BANK 4
part D text: BANK 6
part E text: BANK 7

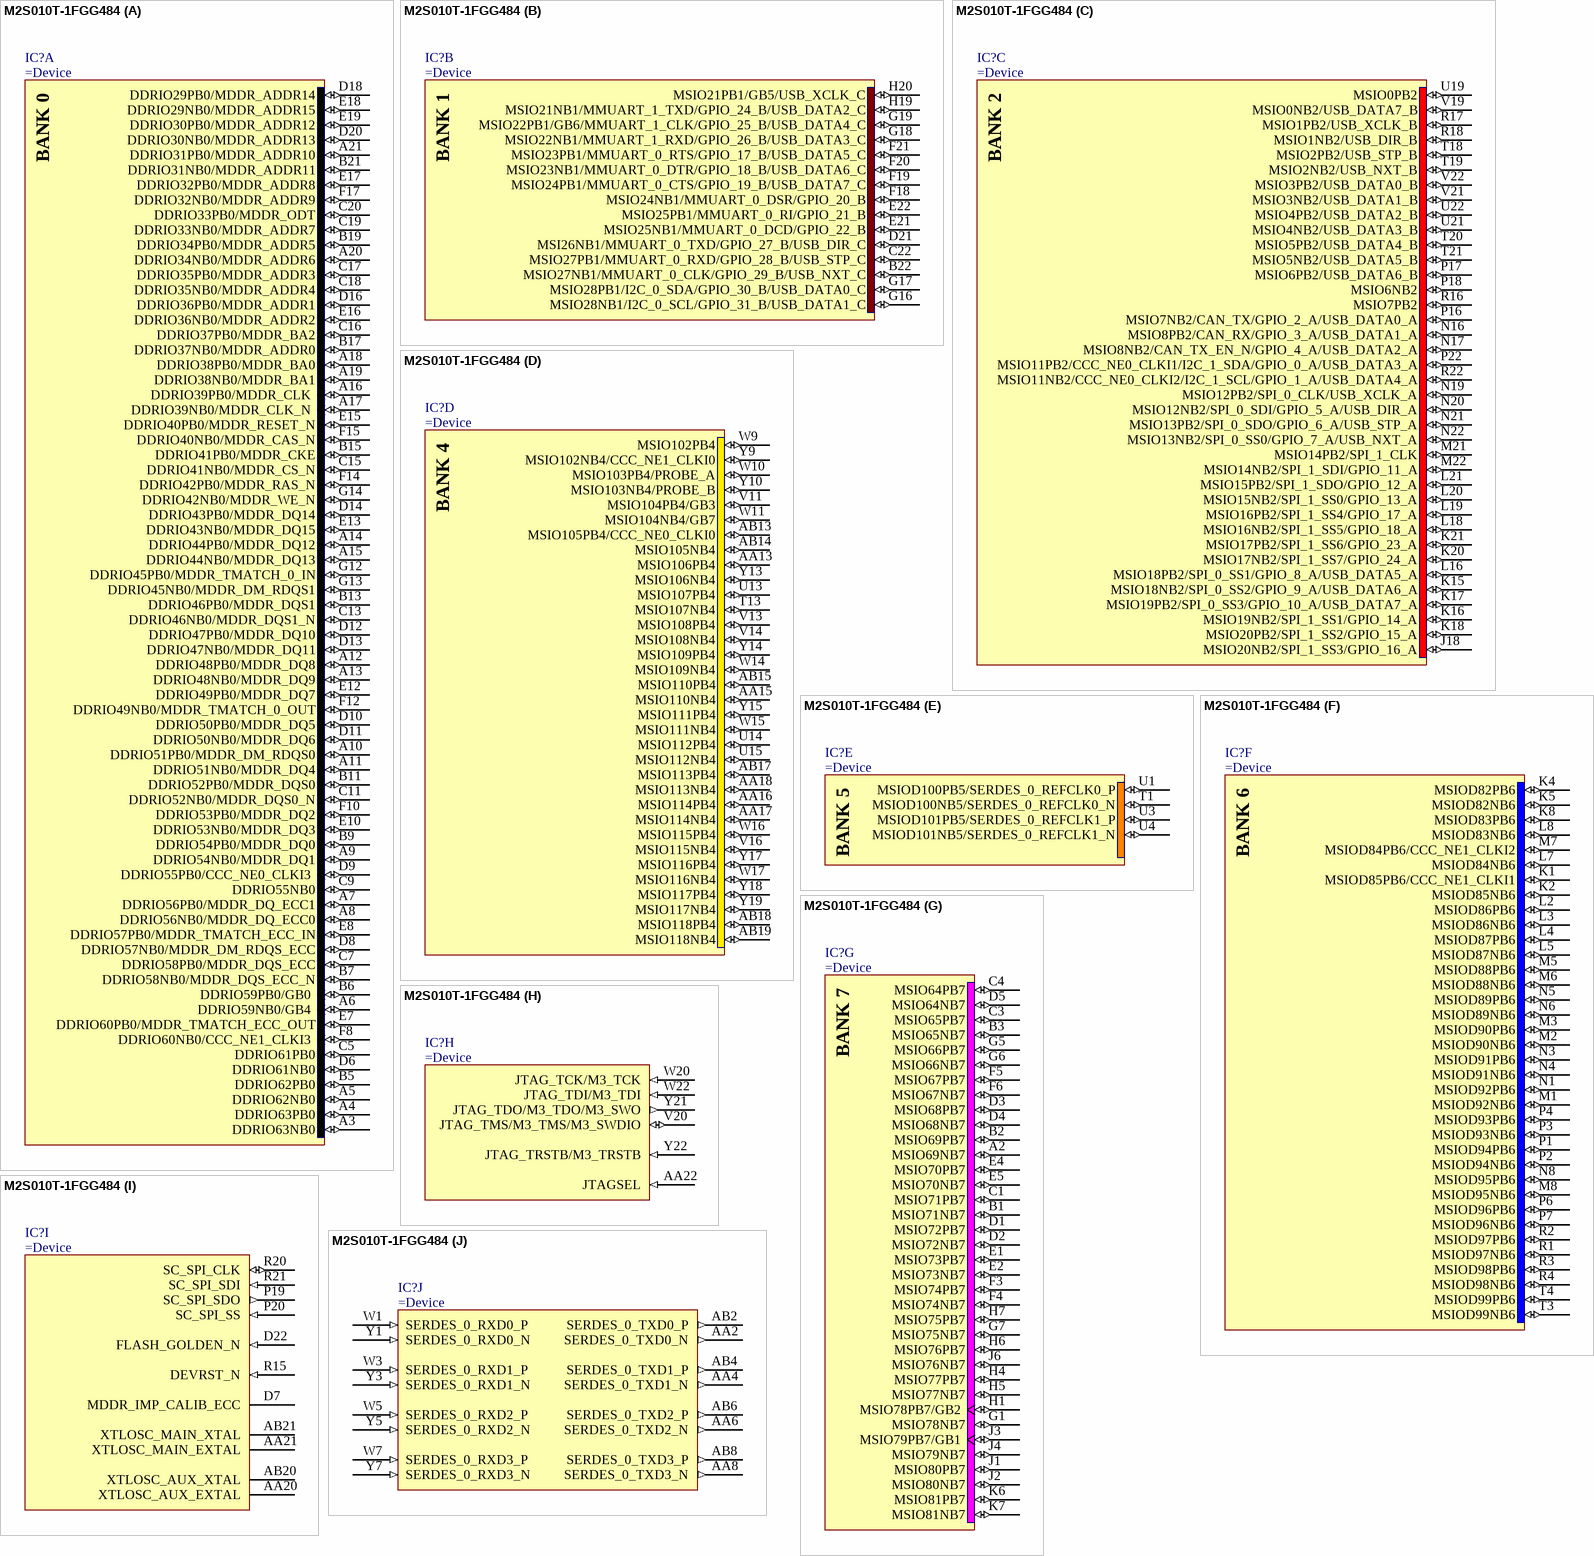
[diagram p89: symbol M2S010T-1FGG484]

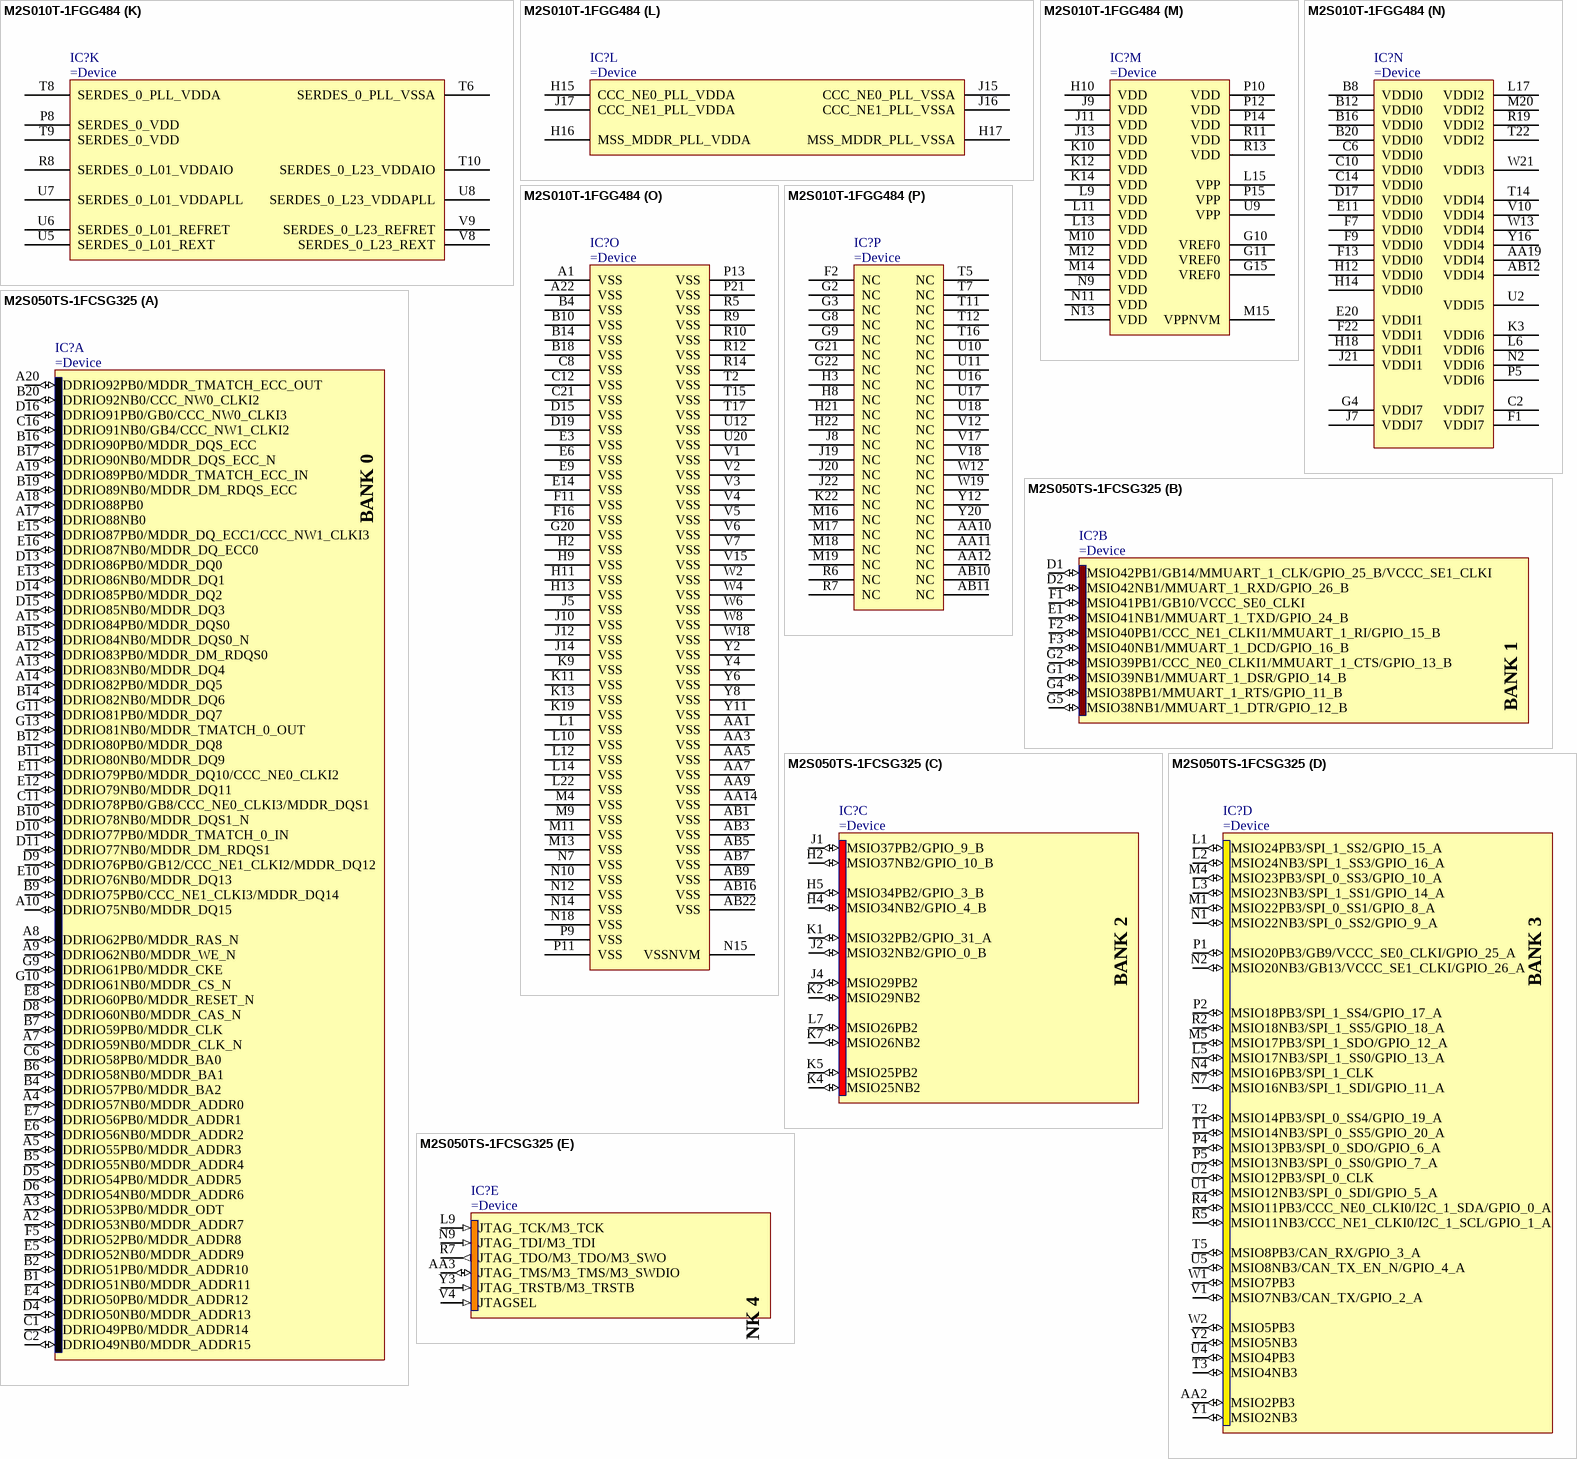
[diagram p90: symbols M2S010T-1FGG484 to M2S050TS-1FCSG325]